# Altium footprint library lc-filter.PCBLIB: 1 footprints
Each footprint in its own frame and in the unit in brackets; x right, y up, seen from the top. Pads: shape width x height; smd on the part's side, far side on the other; paste and mask are expansions set on the pad; w line width, h text height; cw(c..) or ccw(c..) is an arc to the next point about the centre after c.
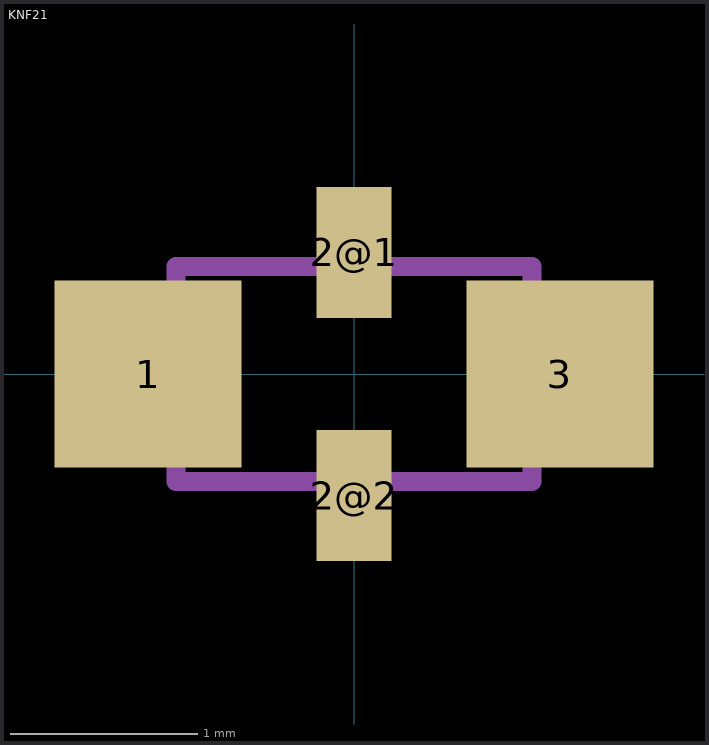
[diagram p0: the footprint, top view; thin cyan lines are the x and y axes]

## KNF21 [mm]
pads (4):
  rect 1x1 smd: 1(-1.1,0) 3(1.1,0)
  rect 0.4x0.7 smd: 2@1(0,0.65) 2@2(0,-0.65)
Top Solder:
  rectangle: -1.7,-0.6 -0.55,0.6
  rectangle: 0.55,-0.625 1.7,0.6
  rectangle: -0.4,-1.2 0.4,1.2
Mechanical 16:
  lines w0.102: -0.95,-0.575 0.95,-0.575 0.95,0.575 -0.95,0.575 -0.95,-0.575